# EAGLE library part BQ2423X (library imix)
TI bq2423x: USB-Friendly Lithium-Ion Battery Charger And Power-Path Management IC
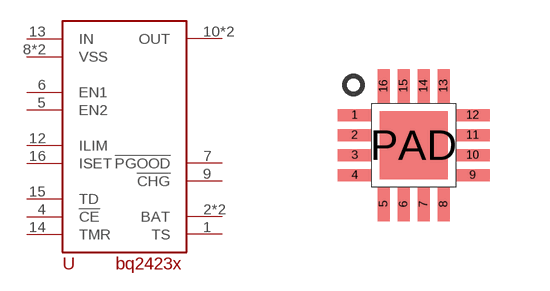
[diagram p9: symbol with the pads of QFP16_3X3; footprint QFP16_3X3]

Designator prefix U

## BQ2423X  [QFP16_3X3]
1  TS
2  BAT
3  BAT
4  !CE
5  EN2
6  EN1
7  !PGOOD
8  VSS
9  !CHG
10  OUT
11  OUT
12  ILIM
13  IN
14  TMR
15  TD
16  ISET
PAD  VSS

## Footprint QFP16_3X3 (pad centres in mm)
QFP16 package (3 X 3 mm)
smd 0.85 x 0.3: 1 -1.475,0.75; 2 -1.475,0.25; 3 -1.475,-0.25; 4 -1.475,-0.75; 9 1.475,-0.75; 10 1.475,-0.25; 11 1.475,0.25; 12 1.475,0.75
smd 0.3 x 0.85: 5 -0.75,-1.475; 6 -0.25,-1.475; 7 0.25,-1.475; 8 0.75,-1.475; 13 0.75,1.475; 14 0.25,1.475; 15 -0.25,1.475; 16 -0.75,1.475
smd 1.7 x 1.7: PAD 0,0